# EAGLE library part 1G19 (library U-7400)
C19 [TI,SN74LVC1G19DBVR] LOGIC DEMUX 1OF2 SOT26
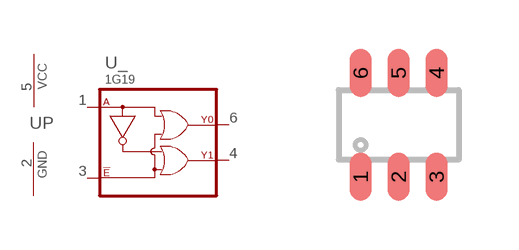
[diagram p324: symbol with the pads of SOT23-6,SOT26; footprint SOT23-6,SOT26]

Designator prefix U; gates _=1G19 P=PWRN

## 1G19SOT26  [SOT23-6,SOT26]
1  _:A  in
2  P:GND  pwr
3  _:!E  in
4  _:Y1  out
5  P:VCC  sup
6  _:Y0  out

## Footprint SOT23-6,SOT26 (pad centres in mm)
Small Outline SOT23-6, SOT26, SC-74A
smd 0.55 x 1.2: 1 -0.95,-1.3; 2 0,-1.3; 3 0.95,-1.3; 4 0.95,1.3; 5 0,1.3; 6 -0.95,1.3